# EAGLE library part ICL7662 (library Bauteile)
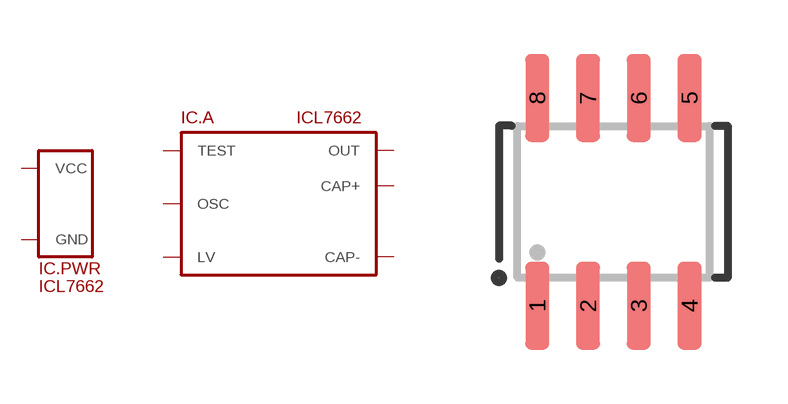
[diagram p47: symbol with the pads of SO8; footprint SO8]

Designator prefix IC; gates .PWR=SUPPLY_VCC/GND .A=ICL7662

## ICL7662  [SO8]
1  .A:TEST
2  .A:CAP+
3  .PWR:GND
4  .A:CAP-
5  .A:OUT
6  .A:LV
7  .A:OSC
8  .PWR:VCC

## Footprint SO8 (pad centres in mm)
smd 0.6 x 2.2: 1 -1.905,-2.6; 2 -0.635,-2.6; 3 0.635,-2.6; 4 1.905,-2.6; 5 1.905,2.6; 6 0.635,2.6; 7 -0.635,2.6; 8 -1.905,2.6